# Altium schematic symbol library JXT.SchLib: 11 symbols
Pins are listed as number, name and electrical type; pins without a type are passive.

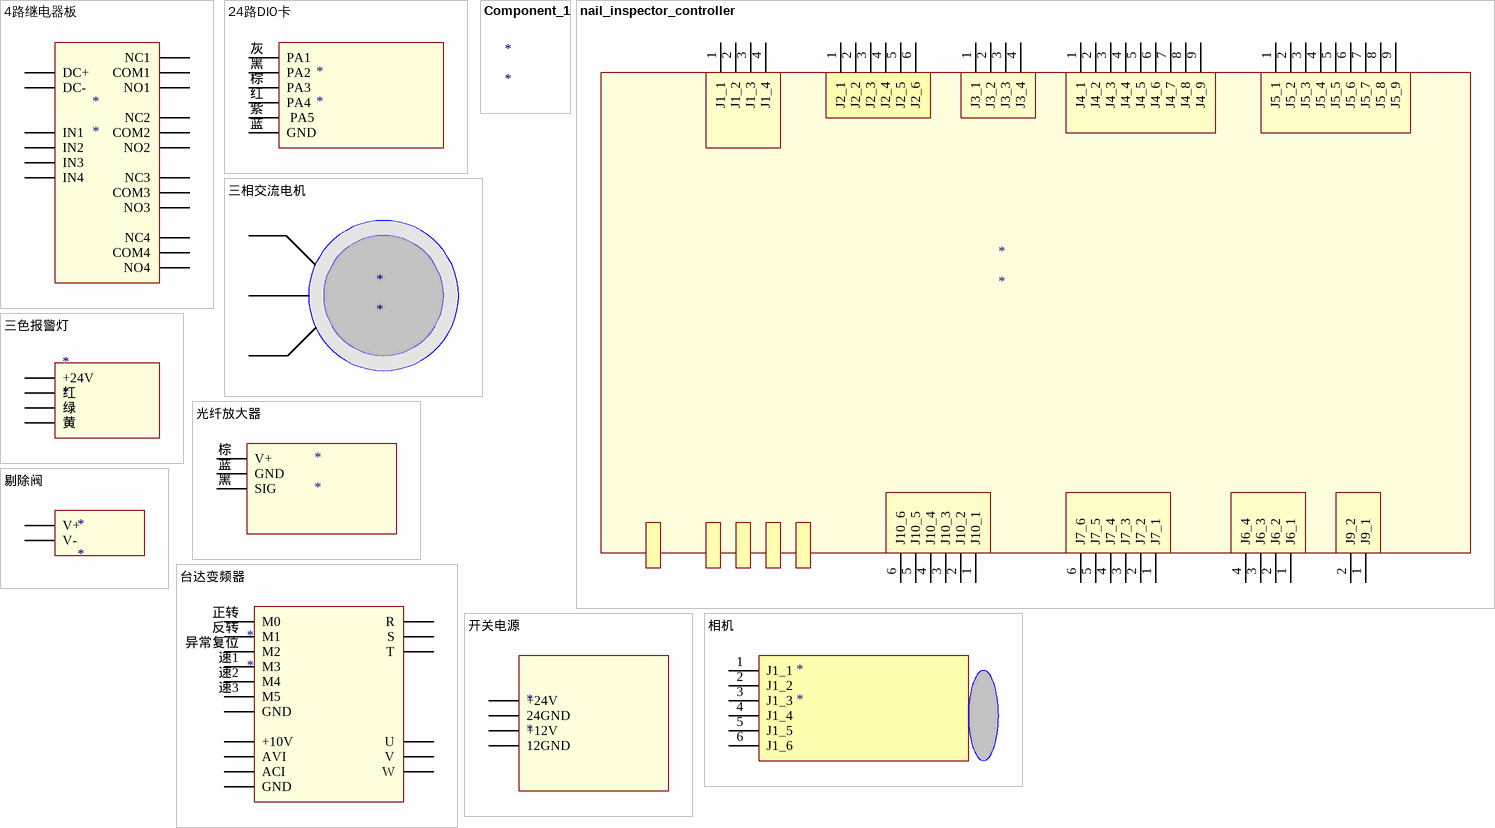
[diagram p0: symbols 4路继电器板 to 相机]

## 4路继电器板
designator *
pins: ?1 DC+, ?2 DC-, ?3 IN1, ?4 IN2, ?5 IN3, ?6 IN4, ?7 NC1, ?8 NC2, ?9 NC3, ?10 NC4, ?11 COM1, ?12 COM2, ?13 COM3, ?14 COM4, ?15 NO1, ?16 NO2, ?17 NO3, ?18 NO4

## 24路DIO卡
designator *
pins: 棕 PA3, 灰 PA1, 紫  PA5, 红 PA4, 蓝 GND, 黑 PA2

## Component_1
designator *

## nail_inspector_controller
designator *
pins: 1 J1_1, 1 J3_1, 1 J2_1, 1 J4_1, 1 J5_1, 1 J6_1, 1 J7_1, 1 J9_1, 1 J10_1, 2 J1_2, 2 J3_2, 2 J2_2, 2 J4_2, 2 J5_2, 2 J6_2, 2 J7_2, 2 J9_2, 2 J10_2, 3 J1_3, 3 J3_3, 3 J2_3, 3 J4_3, 3 J5_3, 3 J6_3, 3 J7_3, 3 J10_3, 4 J1_4, 4 J3_4, 4 J2_4, 4 J4_4, 4 J5_4, 4 J6_4, 4 J7_4, 4 J10_4, 5 J2_5, 5 J4_5, 5 J5_5, 5 J7_5, 5 J10_5, 6 J2_6, 6 J4_6, 6 J5_6, 6 J7_6, 6 J10_6, 7 J4_7, 7 J5_7, 8 J4_8, 8 J5_8, 9 J4_9, 9 J5_9

## 三相交流电机
designator *
pins: ?1  , ?2  , ?3  

## 三色报警灯
designator *
pins: ?1 红, ?2 绿, ?3 黄, ?4 +24V

## 光纤放大器
designator *
pins: 棕 V+, 蓝 GND, 黑 SIG

## 剔除阀
designator *
pins: ?1 V+, ?2 V-

## 台达变频器
designator *
pins: ?1 GND, ?2 +10V, ?3 AVI, ?4 ACI, ?5 GND, ?6 U, ?7 V, ?8 W, ?9 R, ?10 S, ?11 T, 反转 M1, 异常复位 M2, 正转 M0, 速1 M3, 速2 M4, 速3 M5

## 开关电源
designator *
pins: ?1 +24V, ?2 24GND, ?3 +12V, ?4 12GND

## 相机
designator *
pins: 1 J1_1, 2 J1_2, 3 J1_3, 4 J1_4, 5 J1_5, 6 J1_6